# EAGLE library part MILLI-GRID-30 (library con-molex)
Milli-Grid Pin Header 2.00mm (.079") Pitch
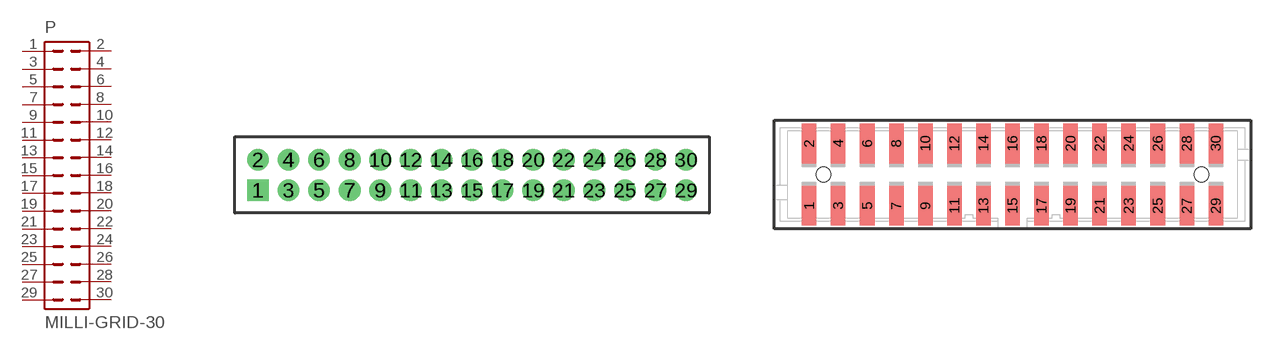
[diagram p63: symbol with the pads of 87758-30; footprints 87758-30, 87832-30]

Designator prefix P

## MILLI-GRID-30-87758  [87758-30]
1  1  pas
2  2  pas
3  3  pas
4  4  pas
5  5  pas
6  6  pas
7  7  pas
8  8  pas
9  9  pas
10  10  pas
11  11  pas
12  12  pas
13  13  pas
14  14  pas
15  15  pas
16  16  pas
17  17  pas
18  18  pas
19  19  pas
20  20  pas
21  21  pas
22  22  pas
23  23  pas
24  24  pas
25  25  pas
26  26  pas
27  27  pas
28  28  pas
29  29  pas
30  30  pas

## MILLI-GRID-30-87832  [87832-30]
Pads as for 87758-30

## MILLI-GRID-30-87759  [87759-30]
Pads as for 87758-30

## MILLI-GRID-30-79109  [79109-30]
Pads as for 87758-30

## MILLI-GRID-30-79107  [79107-30]
Pads as for 87758-30

## MILLI-GRID-30-87264  [87264-30]
Pads as for 87758-30

## MILLI-GRID-30-87368  [87368-30]
Pads as for 87758-30

## Footprint 87758-30 (pad centres in mm)
PCB Pin Headers 2.00mm (.079") Pitch Milli-Grid Header, Vertical
drill 0.914 square: 1 -14,-1
drill 0.914: 2 -14,1; 3 -12,-1; 4 -12,1; 5 -10,-1; 6 -10,1; 7 -8,-1; 8 -8,1; 9 -6,-1; 10 -6,1; 11 -4,-1; 12 -4,1; 13 -2,-1; 14 -2,1; 15 0,-1; 16 0,1; 17 2,-1; 18 2,1; 19 4,-1; 20 4,1; 21 6,-1; 22 6,1; 23 8,-1; 24 8,1; 25 10,-1; 26 10,1; 27 12,-1; 28 12,1; 29 14,-1; 30 14,1

## Footprint 87832-30 (pad centres in mm)
PCB Headers 2.00mm (.079") Pitch Milli-Grid Header, Vertical, Shrouded
smd 1 x 2.75: 1 -14,-2.15; 2 -14,2.15; 3 -12,-2.15; 4 -12,2.15; 5 -10,-2.15; 6 -10,2.15; 7 -8,-2.15; 8 -8,2.15; 9 -6,-2.15; 10 -6,2.15; 11 -4,-2.15; 12 -4,2.15; 13 -2,-2.15; 14 -2,2.15; 15 0,-2.15; 16 0,2.15; 17 2,-2.15; 18 2,2.15; 19 4,-2.15; 20 4,2.15; 21 6,-2.15; 22 6,2.15; 23 8,-2.15; 24 8,2.15; 25 10,-2.15; 26 10,2.15; 27 12,-2.15; 28 12,2.15; 29 14,-2.15; 30 14,2.15
hole 1 at -13,0
hole 1 at 13,0

## Footprint 87759-30 (pad centres in mm)
PCB Pin Headers 2.00mm (.079") Pitch Milli-Grid Header, Vertical SMD
smd 1 x 2.75: 1 -14,-2.15; 2 -14,2.15; 3 -12,-2.15; 4 -12,2.15; 5 -10,-2.15; 6 -10,2.15; 7 -8,-2.15; 8 -8,2.15; 9 -6,-2.15; 10 -6,2.15; 11 -4,-2.15; 12 -4,2.15; 13 -2,-2.15; 14 -2,2.15; 15 0,-2.15; 16 0,2.15; 17 2,-2.15; 18 2,2.15; 19 4,-2.15; 20 4,2.15; 21 6,-2.15; 22 6,2.15; 23 8,-2.15; 24 8,2.15; 25 10,-2.15; 26 10,2.15; 27 12,-2.15; 28 12,2.15; 29 14,-2.15; 30 14,2.15
hole 1 at -13,0
hole 1 at 13,0

## Footprint 79109-30 (pad centres in mm)
Board-to-Board Receptacal 2.00mm (.079") Pitch Milli-Grid Header, Vertical, Top/Bottom Entry Mates with: 87758, 87759, 87760, 87831, 87832, 87833
smd 1.12 x 1.83: 1 -14,-2.65; 2 -14,2.65; 3 -12,-2.65; 4 -12,2.65; 5 -10,-2.65; 6 -10,2.65; 7 -8,-2.65; 8 -8,2.65; 9 -6,-2.65; 10 -6,2.65; 11 -4,-2.65; 12 -4,2.65; 13 -2,-2.65; 14 -2,2.65; 15 0,-2.65; 16 0,2.65; 17 2,-2.65; 18 2,2.65; 19 4,-2.65; 20 4,2.65; 21 6,-2.65; 22 6,2.65; 23 8,-2.65; 24 8,2.65; 25 10,-2.65; 26 10,2.65; 27 12,-2.65; 28 12,2.65; 29 14,-2.65; 30 14,2.65
hole 0.914 at -13,0
hole 0.914 at -14,1
hole 0.914 at -14,-1
hole 0.914 at -12,-1
hole 0.914 at -12,1
hole 0.914 at -10,-1
hole 0.914 at -10,1
hole 0.914 at 13,0
hole 0.914 at -8,1
hole 0.914 at -8,-1
hole 0.914 at -6,1
hole 0.914 at -6,-1
hole 0.914 at -4,1
hole 0.914 at -4,-1
hole 0.914 at -2,1
hole 0.914 at -2,-1
hole 0.914 at 0,-1
hole 0.914 at 0,1
hole 0.914 at 2,1
hole 0.914 at 2,-1
hole 0.914 at 4,1
hole 0.914 at 4,-1
hole 0.914 at 6,1
hole 0.914 at 6,-1
hole 0.914 at 8,-1
hole 0.914 at 8,1
hole 0.914 at 10,1
hole 0.914 at 12,1
hole 0.914 at 14,1
hole 0.914 at 10,-1
hole 0.914 at 12,-1
hole 0.914 at 14,-1

## Footprint 79107-30 (pad centres in mm)
Board-To-Board Receptacal 2.00mm (.079") Pitch Milli-Grid Header, Vertical, Through-Hole Mates with: 87759, 87762, 87758, 87760
drill 0.914 square: 1 -15,-1
drill 0.914: 2 -15,1; 3 -13,-1; 4 -13,1; 5 -11,-1; 6 -11,1; 7 -9,-1; 8 -9,1; 9 -7,-1; 10 -7,1; 11 -5,-1; 12 -5,1; 13 -3,-1; 14 -3,1; 15 -1,-1; 16 -1,1; 17 1,-1; 18 1,1; 19 3,-1; 20 3,1; 21 5,-1; 22 5,1; 23 7,-1; 24 7,1; 25 9,-1; 26 9,1; 27 11,-1; 28 11,1; 29 13,-1; 30 13,1

## Footprint 87264-30 (pad centres in mm)
Board-To-Board Receptacal 2.00mm (.079") Pitch Milli-Grid Header, Side Entry Mates with 2mm(.079") Mill-Grid Header
drill 0.914 square: 1 -14,-2.25
drill 0.914: 2 -14,2.25; 3 -12,-2.25; 4 -12,2.25; 5 -10,-2.25; 6 -10,2.25; 7 -8,-2.25; 8 -8,2.25; 9 -6,-2.25; 10 -6,2.25; 11 -4,-2.25; 12 -4,2.25; 13 -2,-2.25; 14 -2,2.25; 15 0,-2.25; 16 0,2.25; 17 2,-2.25; 18 2,2.25; 19 4,-2.25; 20 4,2.25; 21 6,-2.25; 22 6,2.25; 23 8,-2.25; 24 8,2.25; 25 10,-2.25; 26 10,2.25; 27 12,-2.25; 28 12,2.25; 29 14,-2.25; 30 14,2.25

## Footprint 87368-30 (pad centres in mm)
Board-To-Board Receptacal 2.00mm (.079") Pitch Milli-Grid Header, Side Entry SMD Mates with 2mm(.079") Mill-Grid Header
smd 1 x 2.8: 1 -14,-3.1; 2 -14,3.1; 3 -12,-3.1; 4 -12,3.1; 5 -10,-3.1; 6 -10,3.1; 7 -8,-3.1; 8 -8,3.1; 9 -6,-3.1; 10 -6,3.1; 11 -4,-3.1; 12 -4,3.1; 13 -2,-3.1; 14 -2,3.1; 15 0,-3.1; 16 0,3.1; 17 2,-3.1; 18 2,3.1; 19 4,-3.1; 20 4,3.1; 21 6,-3.1; 22 6,3.1; 23 8,-3.1; 24 8,3.1; 25 10,-3.1; 26 10,3.1; 27 12,-3.1; 28 12,3.1; 29 14,-3.1; 30 14,3.1
hole 0.914 at -14,0
hole 0.914 at 0,0